# EAGLE library part BT-DUAL-MODE (library template)
2.1. Chipset 6x6 mm2 40 pin QFN IS1657NM 2.2. Interfaces - Multi function GPIO interface - Bluetooth RF interface - HCI over URAT up to 115200 bps - I2C for external EEPROM 2.3. Hardware Design Considerations - Power The module requires either a 4.2- 3.3V - Power ramp-up timing restriction 1) BAT_IN : ramp-up (0 to 1.6V) < 200ms 2) PMULDO_O : PMU-logic ramp-up (0 to 1.6V) <60ms 3) VCC_RF (1.8V power domain) : RF BPOR ramp-up (0 to 1.6V) < 20ms - Power on sequence 1) BAT_IN: must be first! 2) 3.3V power domain: VDD_IO/ VDD_FIO must power-up early than 1.8V power. 3) 1.8V power domain: 1V8/ VCC_RF/ VDD_XO/ 1V8_U_P 4) RST_N: digital reset released from 0 to 1.6V must be the last one. - Recommended operating conditions Rating Min Typ Max VDD_IO_x, 3.2V 3.63V SW_BTN 3.2V 4.3V BAT_IN 3.2V 4.3V - Clock Sources A high accuracy crystal with ±10ppm tolerance is connected to the BM77SPP03MC2 clock input pins. - Serial Flash and Firmware Version Firmware code is stored on chip internal flash. - Radio Characteristics Frequency Band: 2402-2480 GHz Number of Channels: Bluetooth V3.0 + EDR Low Energy 79 channels (1MHz) 40 MHz channels (2MHz)
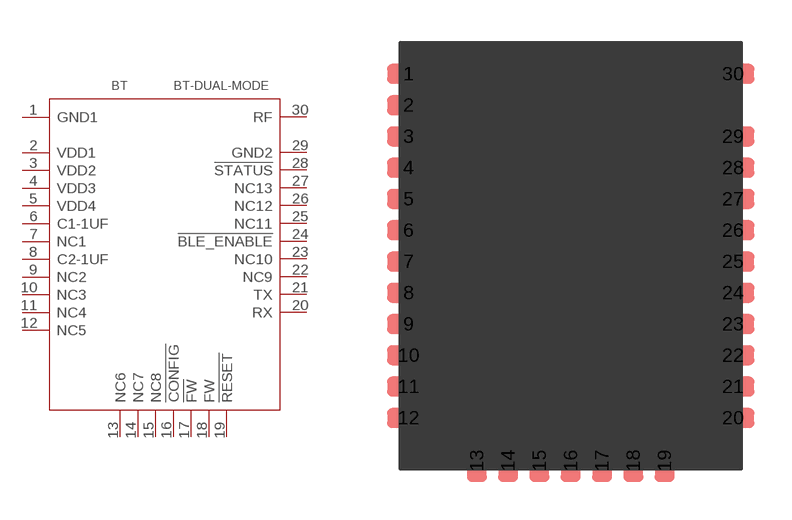
[diagram p30: symbol with the pads of 30P-15X12X1.86H; footprint 30P-15X12X1.86H]

Designator prefix BT

## BT-DUAL-MODE  [30P-15X12X1.86H]
1  GND1
2  VDD1
3  VDD2
4  VDD3
5  VDD4
6  C1-1UF
7  NC1
8  C2-1UF
9  NC2
10  NC3
11  NC4
12  NC5
13  NC6
14  NC7
15  NC8
16  !CONFIG
17  !FW
18  FW
19  !RESET
20  RX
21  TX
22  NC9
23  NC10
24  !BLE_ENABLE
25  NC11
26  NC12
27  NC13
28  !STATUS
29  GND2
30  RF

## Footprint 30P-15X12X1.86H (pad centres in mm)
smd 1.5 x 0.7: 1 -5.7,6.4; 2 -5.7,5.3; 3 -5.7,4.2; 4 -5.7,3.1; 5 -5.7,2; 6 -5.7,0.9; 7 -5.7,-0.2; 8 -5.7,-1.3; 9 -5.7,-2.4; 10 -5.7,-3.5; 11 -5.7,-4.6; 12 -5.7,-5.7; 20 5.7,-5.7; 21 5.7,-4.6; 22 5.7,-3.5; 23 5.7,-2.4; 24 5.7,-1.3; 25 5.7,-0.2; 26 5.7,0.9; 27 5.7,2; 28 5.7,3.1; 29 5.7,4.2; 30 5.7,6.4
smd 0.7 x 1.5: 13 -3.3,-7.2; 14 -2.2,-7.2; 15 -1.1,-7.2; 16 0,-7.2; 17 1.1,-7.2; 18 2.2,-7.2; 19 3.3,-7.2